# Altium footprint library 1206-C.PcbLib: 1 footprints
Each footprint in its own frame and in the unit in brackets; x right, y up, seen from the top. Pads: shape width x height; smd on the part's side, far side on the other; paste and mask are expansions set on the pad; w line width, h text height; cw(c..) or ccw(c..) is an arc to the next point about the centre after c.
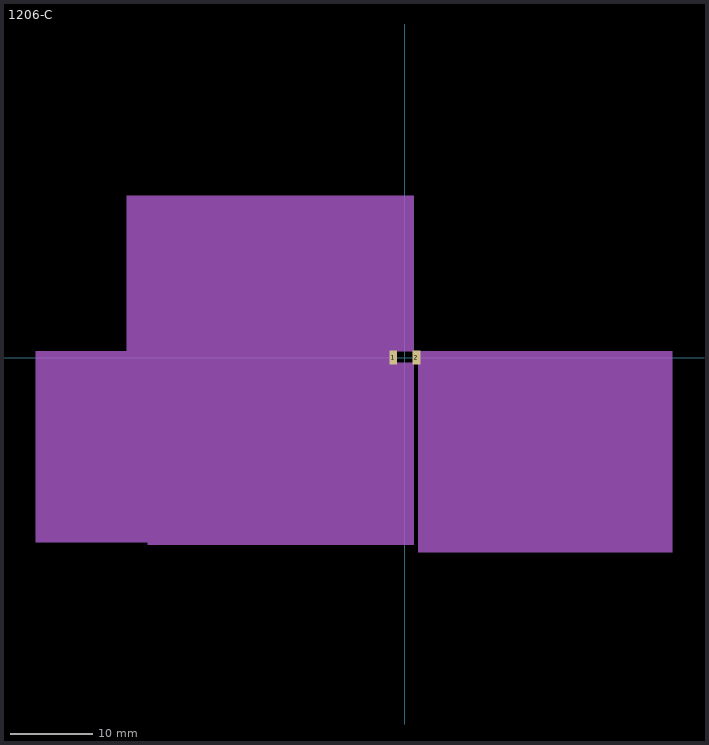
[diagram p0: the footprint, top view; thin cyan lines are the x and y axes]

## 1206-C [mm]
pads (2):
  rect 0.95x1.7 smd: 1(-1.4,0) 2(1.4,0)
Mechanical 1:
  region: -31.06,-0.64 1.1,-0.64 1.1,-22.589 -31.06,-22.589
  region: -33.619,0.8 1.1,0.8 1.1,19.559 -33.619,19.559
  region: 32.312,0.8 1.6,0.8 1.6,-23.501 32.312,-23.501
  region: -44.597,0.8 -1.1,0.8 -1.1,-22.297 -44.597,-22.297